# Altium schematic symbol library Schlib1.SchLib: 74 symbols
Pins are listed as number, name and electrical type; pins without a type are passive.

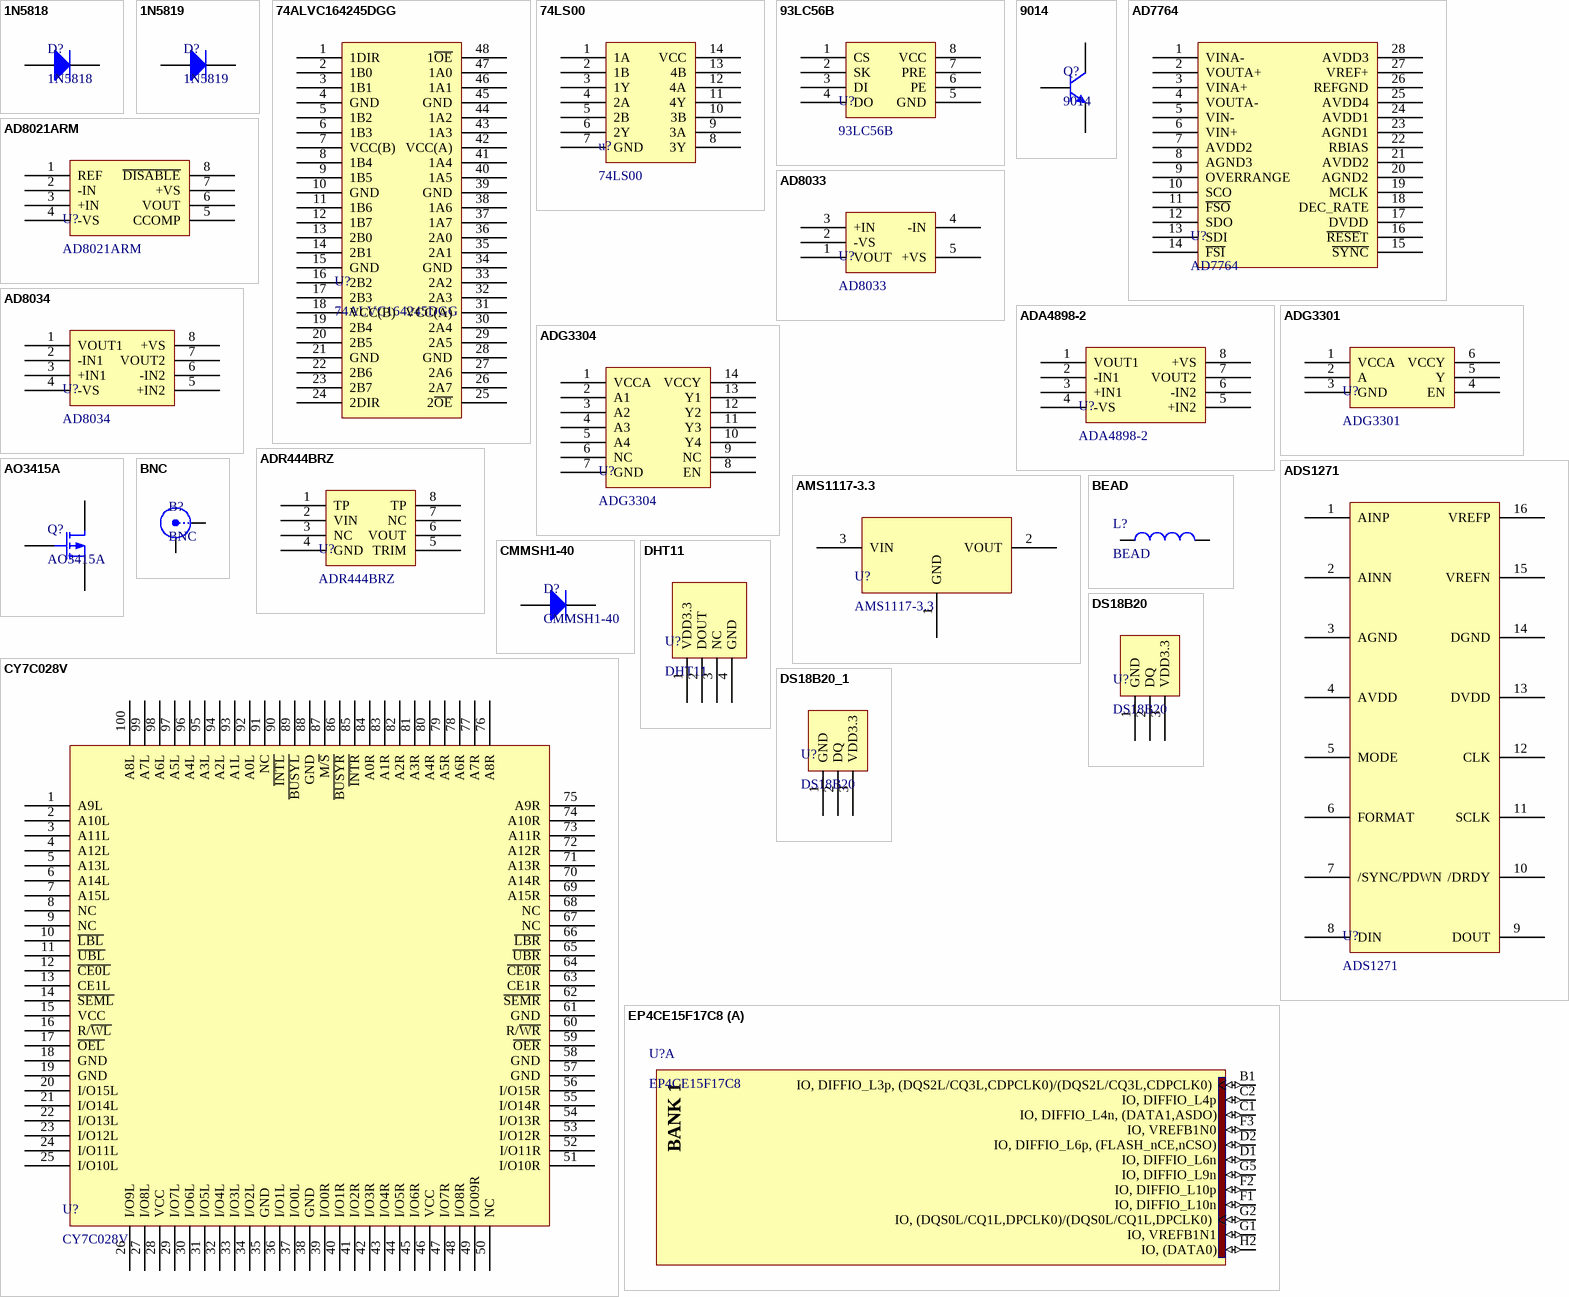
[diagram p0: symbols 1N5818 to EP4CE15F17C8]

## 1N5818
designator D?
footprint SMB
pins: 1 A, 2 K

## 1N5819
designator D?
footprint SMB
pins: 1 A, 2 K

## 74ALVC164245DGG
designator U?
footprint 74ALVC164245DGG(SOP48) (SSOP, 48-Leads, Body 12.6x6.2mm (max), Pitch 0.50mm, IPC Medium Density)
pins: 1 1DIR, 2 1B0, 3 1B1, 4 GND, 5 1B2, 6 1B3, 7 VCC(B), 8 1B4, 9 1B5, 10 GND, 11 1B6, 12 1B7, 13 2B0, 14 2B1, 15 GND, 16 2B2, 17 2B3, 18 VCC(B), 19 2B4, 20 2B5, 21 GND, 22 2B6, 23 2B7, 24 2DIR, 25 2~{OE}, 26 2A7, 27 2A6, 28 GND, 29 2A5, 30 2A4, 31 VCC(A), 32 2A3, 33 2A2, 34 GND, 35 2A1, 36 2A0, 37 1A7, 38 1A6, 39 GND, 40 1A5, 41 1A4, 42 VCC(A), 43 1A3, 44 1A2, 45 GND, 46 1A1, 47 1A0, 48 1~{OE}

## 74LS00
designator u?
footprint 74LS00
pins: 1 1A, 2 1B, 3 1Y, 4 2A, 5 2B, 6 2Y, 7 GND, 8 3Y, 9 3A, 10 3B, 11 4Y, 12 4A, 13 4B, 14 VCC

## 93LC56B
designator U?
footprint 93LC56B(SOIC) (SOIC, 8-Leads, Body 4.9x3.9mm (max), Pitch 1.27mm, IPC Medium Density)
pins: 1 CS, 2 SK, 3 DI, 4 DO, 5 GND, 6 PE, 7 PRE, 8 VCC

## 9014
designator Q?
footprint SOT-23
pins: 1 B, 2 E, 3 C

## AD7764
designator U?
footprint AD7764(SOP28) (TSOP, 28-Leads, Body 9.8x4.5mm (max), Pitch 0.65mm, IPC Medium Density)
pins: 1 VINA-, 2 VOUTA+, 3 VINA+, 4 VOUTA-, 5 VIN-, 6 VIN+, 7 AVDD2, 8 AGND3, 9 OVERRANGE, 10 SCO, 11 ~{FSO}, 12 SDO, 13 SDI, 14 ~{FSI}, 15 ~{SYNC}, 16 ~{RESE}T, 17 DVDD, 18 DEC_RATE, 19 MCLK, 20 AGND2, 21 AVDD2, 22 RBIAS, 23 AGND1, 24 AVDD1, 25 AVDD4, 26 REFGND, 27 VREF+, 28 AVDD3

## AD8021ARM
designator U?
footprint AD8021ARM(MSOP8) (TSOP, 8-Leads, Body 3.2x3.2mm (max), Pitch 0.65mm, IPC Medium Density)
pins: 1 REF, 2 -IN, 3 +IN, 4 -VS, 5 CCOMP, 6 VOUT, 7 +VS, 8 ~{DISABLE}

## AD8033
designator U?
footprint AD8033 (SOT23, 5-Leads, Body 2.2x2.4mm (max), Pitch 0.65mm, IPC Medium Density)
footprint AD8033 (SOT23, 5-Leads, Body 2.2x2.4mm (max), Pitch 0.65mm, IPC Medium Density)
pins: 1 VOUT, 2 -VS, 3 +IN, 4 -IN, 5 +VS

## AD8034
designator U?
footprint AD8034 (SOIC, 8-Leads, Body 5.0x4.0mm (max), Pitch 1.27mm, IPC Medium Density)
pins: 1 VOUT1, 2 -IN1, 3 +IN1, 4 -VS, 5 +IN2, 6 -IN2, 7 VOUT2, 8 +VS

## ADA4898-2
designator U?
footprint ADA4898-2(SOIC-8) (SOIC, 8-Leads, Body 5.0x4.0mm (max), Pitch 1.27mm, IPC Medium Density)
pins: 1 VOUT1, 2 -IN1, 3 +IN1, 4 -VS, 5 +IN2, 6 -IN2, 7 VOUT2, 8 +VS

## ADG3301
designator U?
footprint ADG3301(SOT) (SOT23, 6-Leads, Body 2.2x2.4mm (max), Pitch 0.65mm, IPC Medium Density)
pins: 1 VCCA, 2 A, 3 GND, 4 EN, 5 Y, 6 VCCY

## ADG3304
designator U?
footprint ADG3304(SOP-14) (SOP, 14-Leads, Body 5.1x4.5mm (max), Pitch 0.65mm, IPC Medium Density)
pins: 1 VCCA, 2 A1, 3 A2, 4 A3, 5 A4, 6 NC, 7 GND, 8 EN, 9 NC, 10 Y4, 11 Y3, 12 Y2, 13 Y1, 14 VCCY

## ADR444BRZ
designator U?
footprint ADR444BRZ(SOIC-8) (SOIC, 8-Leads, Body 5.0x4.0mm (max), Pitch 1.27mm, IPC Medium Density)
pins: 1 TP, 2 VIN, 3 NC, 4 GND, 5 TRIM, 6 VOUT, 7 NC, 8 TP

## ADS1271
designator U?
footprint ads1271 (TSOP, 16-Leads, Body 5.1x4.5mm (max), Pitch 0.65mm, IPC Medium Density)
pins: 1 AINP, 2 AINN, 3 AGND, 4 AVDD, 5 MODE, 6 FORMAT, 7 /SYNC/PDWN, 8 DIN, 9 DOUT, 10 /DRDY, 11 SCLK, 12 CLK, 13 DVDD, 14 DGND, 15 VREFN, 16 VREFP

## AMS1117-3.3
designator U?
footprint AMS1117-3.3
pins: 1 GND, 2 VOUT, 3 VIN

## AO3415A
designator Q?
footprint SOT-23
pins: 1 G, 2 S, 3 D

## BEAD
designator L?
footprint 0805
pins: 1, 2

## BNC
designator B?
footprint bnc
pins: 1 Y, 2 X

## CMMSH1-40
designator D?
footprint SOD-123F
pins: 1 A, 2 K

## CY7C028V
designator U?
footprint CY7C028V (TSQFP, 100-Leads, Body 16.3x16.3mm (max), Pitch 0.50mm, IPC Medium Density)
pins: 1 A9L, 2 A10L, 3 A11L, 4 A12L, 5 A13L, 6 A14L, 7 A15L, 8 NC, 9 NC, 10 ~{LBL}, 11 ~{UBL}, 12 ~{CE0L}, 13 CE1L, 14 ~{SEML}, 15 VCC, 16 R/~{WL}, 17 ~{OEL}, 18 GND, 19 GND, 20 I/O15L, 21 I/O14L, 22 I/O13L, 23 I/O12L, 24 I/O11L, 25 I/O10L, 26 I/O9L, 27 I/O8L, 28 VCC, 29 I/O7L, 30 I/O6L, 31 I/O5L, 32 I/O4L, 33 I/O3L, 34 I/O2L, 35 GND, 36 I/O1L, 37 I/O0L, 38 GND, 39 I/O0R, 40 I/O1R, 41 I/O2R, 42 I/O3R, 43 I/O4R, 44 I/O5R, 45 I/O6R, 46 VCC, 47 I/O7R, 48 I/O8R, 49 I/O09R, 50 NC, 51 I/O10R, 52 I/O11R, 53 I/O12R, 54 I/O13R, 55 I/O14R, 56 I/O15R, 57 GND, 58 GND, 59 ~{OER}, 60 R/~{WR}, 61 GND, 62 ~{SEMR}, 63 CE1R, 64 ~{CE0R}, 65 ~{UBR}, 66 ~{LBR}, 67 NC, 68 NC, 69 A15R, 70 A14R, 71 A13R, 72 A12R, 73 A11R, 74 A10R, 75 A9R, 76 A8R, 77 A7R, 78 A6R, 79 A5R, 80 A4R, 81 A3R, 82 A2R, 83 A1R, 84 A0R, 85 ~{INTR}, 86 ~{BUSYR}, 87 M/~{S}, 88 GND, 89 ~{BUSYL}, 90 ~{INTL}, 91 NC, 92 A0L, 93 A1L, 94 A2L, 95 A3L, 96 A4L, 97 A5L, 98 A6L, 99 A7L, 100 A8L

## DHT11
designator U?
footprint DHT11
pins: 1 VDD3.3, 2 DOUT, 3 NC, 4 GND

## DS18B20
designator U?
footprint DS18B20
pins: 1 GND, 2 DQ, 3 VDD3.3

## DS18B20_1
designator U?, comment DS18B20
footprint DS18B20
pins: 1 GND, 2 DQ, 3 VDD3.3

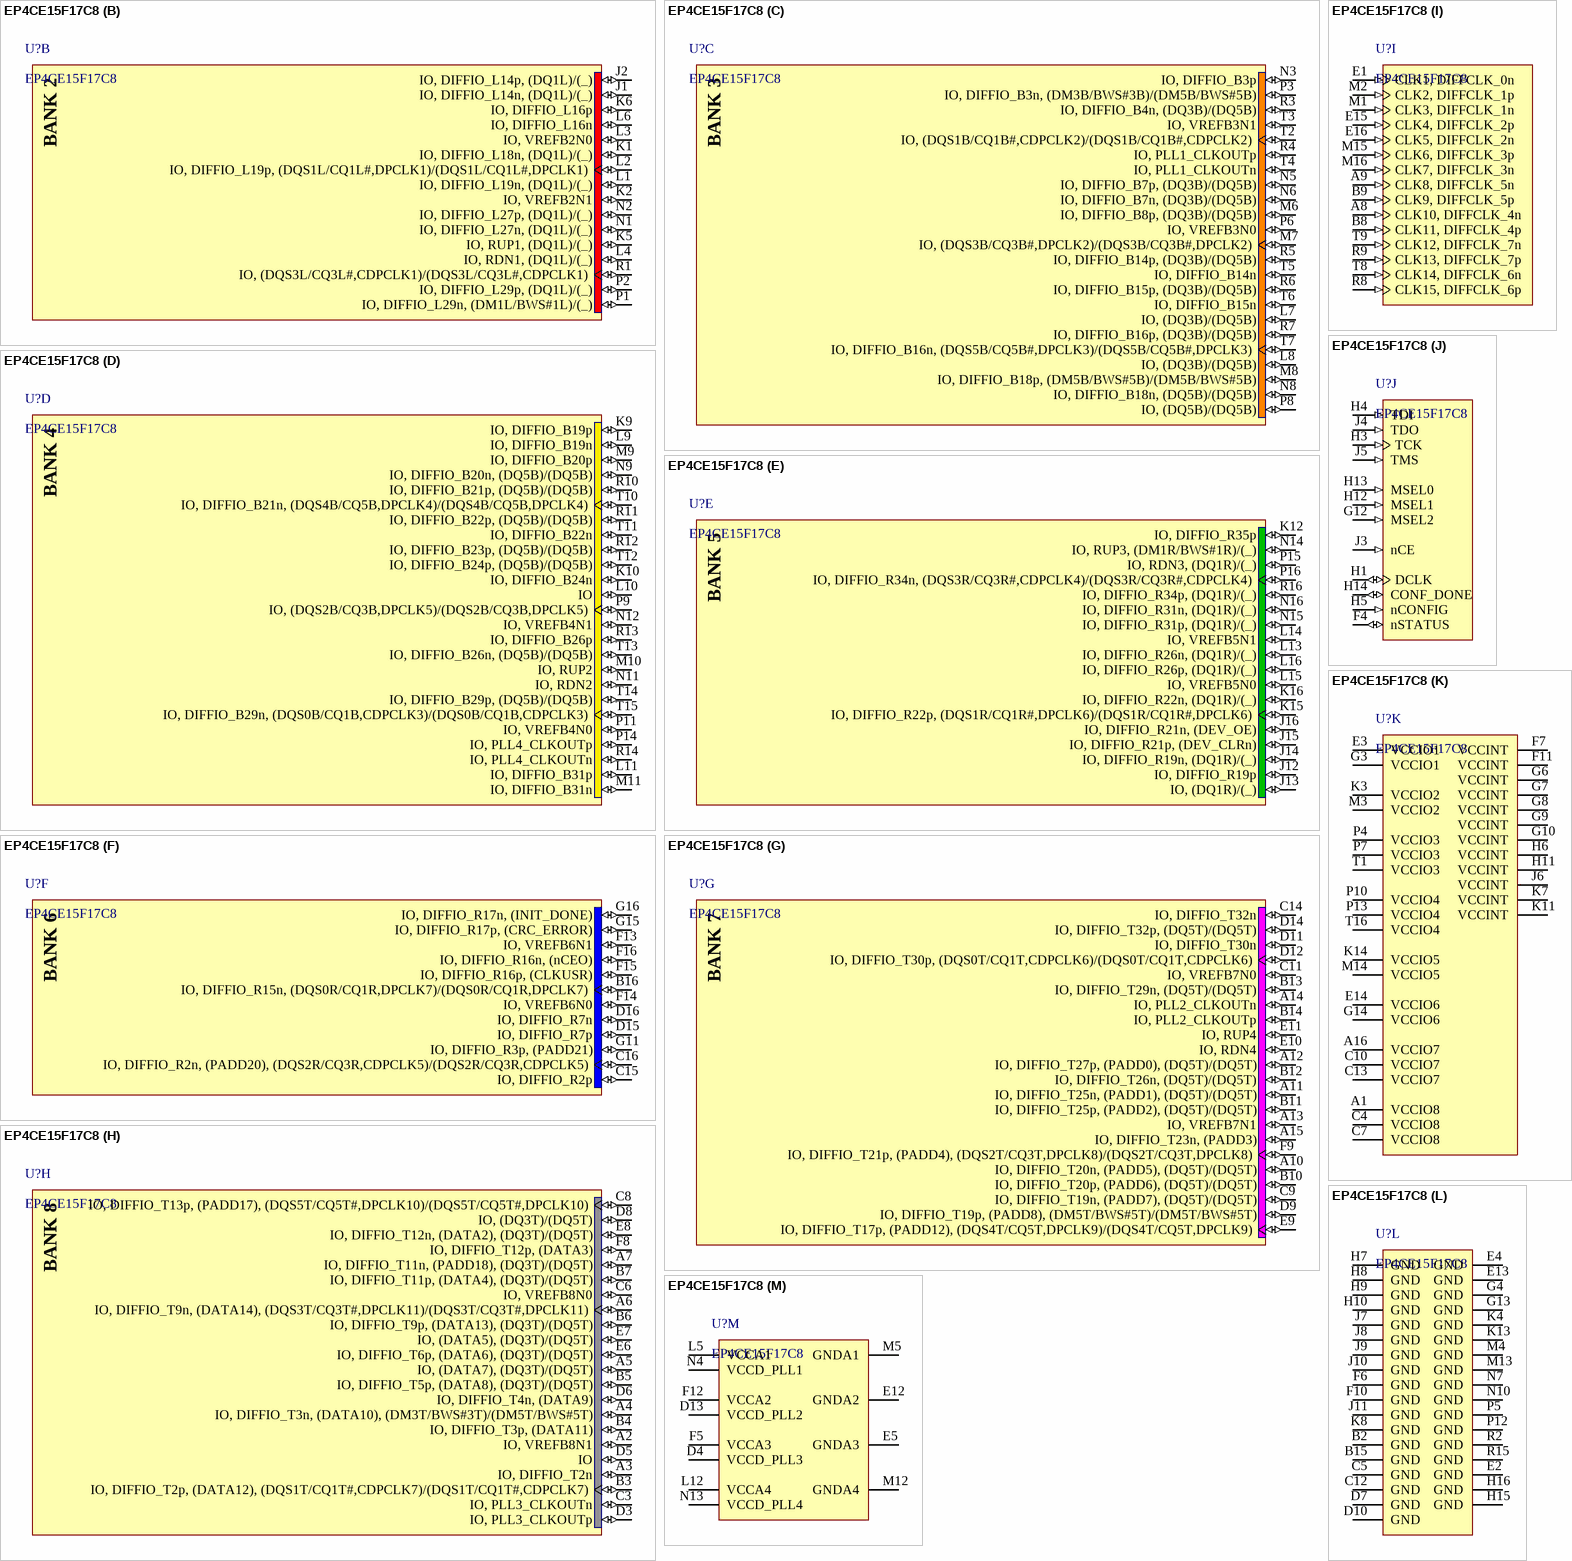
[diagram p1: symbol EP4CE15F17C8]

## EP4CE15F17C8
designator U?
Published: 3-May-2010; DatasheetVersion: ver1.2, Mar-2010; PackageVersion: ver16.0, Dec-2009; PackageReference: FBGA256; Publisher: Altium Limited; PackageDescription: 256-Ball FineLine Ball Grid Array (FBGA256) - Option 1 - Wire Bond; Supplier 1: Digi-Key; Supplier Part Number 1: EP4CE15F17C8-ND; Code_JEDEC: MS-034-AAF-1; Code_IPC: BGA100P16X16-256; ComponentLink1Description: Manufacturer Link; ComponentLink1URL: http://www.altera.com/; ComponentLink2Description: Handbook; ComponentLink2URL: http://www.altera.com/literature/hb/cyclone-iv/cyclone4-handbook.pdf; ComponentLink3Description: Pinout Specification; ComponentLink3URL: http://www.altera.com/literature/lit-dp.jsp?category=cyc%204&showspreadsheet=y; ComponentLink4Description: Packaging Specification; ComponentLink4URL: http://www.altera.com/literature/ds/dspkg.pdf
footprint EP4CE15F17C8(BGA) (BGA, 256-Leads, Body 17x17mm, Pitch 1mm)
part A pins: B1 IO, DIFFIO_L3p, (DQS2L/CQ3L,CDPCLK0)/(DQS2L/CQ3L,CDPCLK0) (io), C1 IO, DIFFIO_L4n, (DATA1,ASDO) (io), C2 IO, DIFFIO_L4p (io), D1 IO, DIFFIO_L6n (io), D2 IO, DIFFIO_L6p, (FLASH_nCE,nCSO) (io), F1 IO, DIFFIO_L10n (io), F2 IO, DIFFIO_L10p (io), F3 IO, VREFB1N0 (io), G1 IO, VREFB1N1 (io), G2 IO, (DQS0L/CQ1L,DPCLK0)/(DQS0L/CQ1L,DPCLK0) (io), G5 IO, DIFFIO_L9n (io), H2 IO, (DATA0) (io)
part B pins: J1 IO, DIFFIO_L14n, (DQ1L)/(_) (io), J2 IO, DIFFIO_L14p, (DQ1L)/(_) (io), K1 IO, DIFFIO_L18n, (DQ1L)/(_) (io), K2 IO, VREFB2N1 (io), K5 IO, RUP1, (DQ1L)/(_) (io), K6 IO, DIFFIO_L16p (io), L1 IO, DIFFIO_L19n, (DQ1L)/(_) (io), L2 IO, DIFFIO_L19p, (DQS1L/CQ1L#,DPCLK1)/(DQS1L/CQ1L#,DPCLK1) (io), L3 IO, VREFB2N0 (io), L4 IO, RDN1, (DQ1L)/(_) (io), L6 IO, DIFFIO_L16n (io), N1 IO, DIFFIO_L27n, (DQ1L)/(_) (io), N2 IO, DIFFIO_L27p, (DQ1L)/(_) (io), P1 IO, DIFFIO_L29n, (DM1L/BWS#1L)/(_) (io), P2 IO, DIFFIO_L29p, (DQ1L)/(_) (io), R1 IO, (DQS3L/CQ3L#,CDPCLK1)/(DQS3L/CQ3L#,CDPCLK1) (io)
part C pins: L7 IO, (DQ3B)/(DQ5B) (io), L8 IO, (DQ3B)/(DQ5B) (io), M6 IO, DIFFIO_B8p, (DQ3B)/(DQ5B) (io), M7 IO, (DQS3B/CQ3B#,DPCLK2)/(DQS3B/CQ3B#,DPCLK2) (io), M8 IO, DIFFIO_B18p, (DM5B/BWS#5B)/(DM5B/BWS#5B) (io), N3 IO, DIFFIO_B3p (io), N5 IO, DIFFIO_B7p, (DQ3B)/(DQ5B) (io), N6 IO, DIFFIO_B7n, (DQ3B)/(DQ5B) (io), N8 IO, DIFFIO_B18n, (DQ5B)/(DQ5B) (io), P3 IO, DIFFIO_B3n, (DM3B/BWS#3B)/(DM5B/BWS#5B) (io), P6 IO, VREFB3N0 (io), P8 IO, (DQ5B)/(DQ5B) (io), R3 IO, DIFFIO_B4n, (DQ3B)/(DQ5B) (io), R4 IO, PLL1_CLKOUTp (io), R5 IO, DIFFIO_B14p, (DQ3B)/(DQ5B) (io), R6 IO, DIFFIO_B15p, (DQ3B)/(DQ5B) (io), R7 IO, DIFFIO_B16p, (DQ3B)/(DQ5B) (io), T2 IO, (DQS1B/CQ1B#,CDPCLK2)/(DQS1B/CQ1B#,CDPCLK2) (io), T3 IO, VREFB3N1 (io), T4 IO, PLL1_CLKOUTn (io), T5 IO, DIFFIO_B14n (io), T6 IO, DIFFIO_B15n (io), T7 IO, DIFFIO_B16n, (DQS5B/CQ5B#,DPCLK3)/(DQS5B/CQ5B#,DPCLK3) (io)
part D pins: K9 IO, DIFFIO_B19p (io), K10 IO, DIFFIO_B24n (io), L9 IO, DIFFIO_B19n (io), L10 IO (io), L11 IO, DIFFIO_B31p (io), M9 IO, DIFFIO_B20p (io), M10 IO, RUP2 (io), M11 IO, DIFFIO_B31n (io), N9 IO, DIFFIO_B20n, (DQ5B)/(DQ5B) (io), N11 IO, RDN2 (io), N12 IO, VREFB4N1 (io), P9 IO, (DQS2B/CQ3B,DPCLK5)/(DQS2B/CQ3B,DPCLK5) (io), P11 IO, VREFB4N0 (io), P14 IO, PLL4_CLKOUTp (io), R10 IO, DIFFIO_B21p, (DQ5B)/(DQ5B) (io), R11 IO, DIFFIO_B22p, (DQ5B)/(DQ5B) (io), R12 IO, DIFFIO_B23p, (DQ5B)/(DQ5B) (io), R13 IO, DIFFIO_B26p (io), R14 IO, PLL4_CLKOUTn (io), T10 IO, DIFFIO_B21n, (DQS4B/CQ5B,DPCLK4)/(DQS4B/CQ5B,DPCLK4) (io), T11 IO, DIFFIO_B22n (io), T12 IO, DIFFIO_B24p, (DQ5B)/(DQ5B) (io), T13 IO, DIFFIO_B26n, (DQ5B)/(DQ5B) (io), T14 IO, DIFFIO_B29p, (DQ5B)/(DQ5B) (io), T15 IO, DIFFIO_B29n, (DQS0B/CQ1B,CDPCLK3)/(DQS0B/CQ1B,CDPCLK3) (io)
part E pins: J12 IO, DIFFIO_R19p (io), J13 IO, (DQ1R)/(_) (io), J14 IO, DIFFIO_R19n, (DQ1R)/(_) (io), J15 IO, DIFFIO_R21p, (DEV_CLRn) (io), J16 IO, DIFFIO_R21n, (DEV_OE) (io), K12 IO, DIFFIO_R35p (io), K15 IO, DIFFIO_R22p, (DQS1R/CQ1R#,DPCLK6)/(DQS1R/CQ1R#,DPCLK6) (io), K16 IO, DIFFIO_R22n, (DQ1R)/(_) (io), L13 IO, DIFFIO_R26n, (DQ1R)/(_) (io), L14 IO, VREFB5N1 (io), L15 IO, VREFB5N0 (io), L16 IO, DIFFIO_R26p, (DQ1R)/(_) (io), N14 IO, RUP3, (DM1R/BWS#1R)/(_) (io), N15 IO, DIFFIO_R31p, (DQ1R)/(_) (io), N16 IO, DIFFIO_R31n, (DQ1R)/(_) (io), P15 IO, RDN3, (DQ1R)/(_) (io), P16 IO, DIFFIO_R34n, (DQS3R/CQ3R#,CDPCLK4)/(DQS3R/CQ3R#,CDPCLK4) (io), R16 IO, DIFFIO_R34p, (DQ1R)/(_) (io)
part F pins: B16 IO, DIFFIO_R15n, (DQS0R/CQ1R,DPCLK7)/(DQS0R/CQ1R,DPCLK7) (io), C15 IO, DIFFIO_R2p (io), C16 IO, DIFFIO_R2n, (PADD20), (DQS2R/CQ3R,CDPCLK5)/(DQS2R/CQ3R,CDPCLK5) (io), D15 IO, DIFFIO_R7p (io), D16 IO, DIFFIO_R7n (io), F13 IO, VREFB6N1 (io), F14 IO, VREFB6N0 (io), F15 IO, DIFFIO_R16p, (CLKUSR) (io), F16 IO, DIFFIO_R16n, (nCEO) (io), G11 IO, DIFFIO_R3p, (PADD21) (io), G15 IO, DIFFIO_R17p, (CRC_ERROR) (io), G16 IO, DIFFIO_R17n, (INIT_DONE) (io)
part G pins: A10 IO, DIFFIO_T20n, (PADD5), (DQ5T)/(DQ5T) (io), A11 IO, DIFFIO_T25n, (PADD1), (DQ5T)/(DQ5T) (io), A12 IO, DIFFIO_T27p, (PADD0), (DQ5T)/(DQ5T) (io), A13 IO, VREFB7N1 (io), A14 IO, PLL2_CLKOUTn (io), A15 IO, DIFFIO_T23n, (PADD3) (io), B10 IO, DIFFIO_T20p, (PADD6), (DQ5T)/(DQ5T) (io), B11 IO, DIFFIO_T25p, (PADD2), (DQ5T)/(DQ5T) (io), B12 IO, DIFFIO_T26n, (DQ5T)/(DQ5T) (io), B13 IO, DIFFIO_T29n, (DQ5T)/(DQ5T) (io), B14 IO, PLL2_CLKOUTp (io), C9 IO, DIFFIO_T19n, (PADD7), (DQ5T)/(DQ5T) (io), C11 IO, VREFB7N0 (io), C14 IO, DIFFIO_T32n (io), D9 IO, DIFFIO_T19p, (PADD8), (DM5T/BWS#5T)/(DM5T/BWS#5T) (io), D11 IO, DIFFIO_T30n (io), D12 IO, DIFFIO_T30p, (DQS0T/CQ1T,CDPCLK6)/(DQS0T/CQ1T,CDPCLK6) (io), D14 IO, DIFFIO_T32p, (DQ5T)/(DQ5T) (io), E9 IO, DIFFIO_T17p, (PADD12), (DQS4T/CQ5T,DPCLK9)/(DQS4T/CQ5T,DPCLK9) (io), E10 IO, RDN4 (io), E11 IO, RUP4 (io), F9 IO, DIFFIO_T21p, (PADD4), (DQS2T/CQ3T,DPCLK8)/(DQS2T/CQ3T,DPCLK8) (io)
part H pins: A2 IO, VREFB8N1 (io), A3 IO, DIFFIO_T2n (io), A4 IO, DIFFIO_T3n, (DATA10), (DM3T/BWS#3T)/(DM5T/BWS#5T) (io), A5 IO, (DATA7), (DQ3T)/(DQ5T) (io), A6 IO, DIFFIO_T9n, (DATA14), (DQS3T/CQ3T#,DPCLK11)/(DQS3T/CQ3T#,DPCLK11) (io), A7 IO, DIFFIO_T11n, (PADD18), (DQ3T)/(DQ5T) (io), B3 IO, DIFFIO_T2p, (DATA12), (DQS1T/CQ1T#,CDPCLK7)/(DQS1T/CQ1T#,CDPCLK7) (io), B4 IO, DIFFIO_T3p, (DATA11) (io), B5 IO, DIFFIO_T5p, (DATA8), (DQ3T)/(DQ5T) (io), B6 IO, DIFFIO_T9p, (DATA13), (DQ3T)/(DQ5T) (io), B7 IO, DIFFIO_T11p, (DATA4), (DQ3T)/(DQ5T) (io), C3 IO, PLL3_CLKOUTn (io), C6 IO, VREFB8N0 (io), C8 IO, DIFFIO_T13p, (PADD17), (DQS5T/CQ5T#,DPCLK10)/(DQS5T/CQ5T#,DPCLK10) (io), D3 IO, PLL3_CLKOUTp (io), D5 IO (io), D6 IO, DIFFIO_T4n, (DATA9) (io), D8 IO, (DQ3T)/(DQ5T) (io), E6 IO, DIFFIO_T6p, (DATA6), (DQ3T)/(DQ5T) (io), E7 IO, (DATA5), (DQ3T)/(DQ5T) (io), E8 IO, DIFFIO_T12n, (DATA2), (DQ3T)/(DQ5T) (io), F8 IO, DIFFIO_T12p, (DATA3) (io)
part I pins: A8 CLK10, DIFFCLK_4n (in), A9 CLK8, DIFFCLK_5n (in), B8 CLK11, DIFFCLK_4p (in), B9 CLK9, DIFFCLK_5p (in), E1 CLK1, DIFFCLK_0n (in), E15 CLK4, DIFFCLK_2p (in), E16 CLK5, DIFFCLK_2n (in), M1 CLK3, DIFFCLK_1n (in), M2 CLK2, DIFFCLK_1p (in), M15 CLK6, DIFFCLK_3p (in), M16 CLK7, DIFFCLK_3n (in), R8 CLK15, DIFFCLK_6p (in), R9 CLK13, DIFFCLK_7p (in), T8 CLK14, DIFFCLK_6n (in), T9 CLK12, DIFFCLK_7n (in)
part J pins: F4 nSTATUS (io), G12 MSEL2 (in), H1 DCLK (io), H3 TCK (in), H4 TDI (in), H5 nCONFIG (in), H12 MSEL1 (in), H13 MSEL0 (in), H14 CONF_DONE (io), J3 nCE (in), J4 TDO (in), J5 TMS (in)
part K pins: A1 VCCIO8 (power), A16 VCCIO7 (power), C4 VCCIO8 (power), C7 VCCIO8 (power), C10 VCCIO7 (power), C13 VCCIO7 (power), E3 VCCIO1 (power), E14 VCCIO6 (power), F7 VCCINT (power), F11 VCCINT (power), G3 VCCIO1 (power), G6 VCCINT (power), G7 VCCINT (power), G8 VCCINT (power), G9 VCCINT (power), G10 VCCINT (power), G14 VCCIO6 (power), H6 VCCINT (power), H11 VCCINT (power), J6 VCCINT (power), K3 VCCIO2 (power), K7 VCCINT (power), K11 VCCINT (power), K14 VCCIO5 (power), M3 VCCIO2 (power), M14 VCCIO5 (power), P4 VCCIO3 (power), P7 VCCIO3 (power), P10 VCCIO4 (power), P13 VCCIO4 (power), T1 VCCIO3 (power), T16 VCCIO4 (power)
part L pins: B2 GND (power), B15 GND (power), C5 GND (power), C12 GND (power), D7 GND (power), D10 GND (power), E2 GND (power), E4 GND (power), E13 GND (power), F6 GND (power), F10 GND (power), G4 GND (power), G13 GND (power), H7 GND (power), H8 GND (power), H9 GND (power), H10 GND (power), H15 GND (power), H16 GND (power), J7 GND (power), J8 GND (power), J9 GND (power), J10 GND (power), J11 GND (power), K4 GND (power), K8 GND (power), K13 GND (power), M4 GND (power), M13 GND (power), N7 GND (power), N10 GND (power), P5 GND (power), P12 GND (power), R2 GND (power), R15 GND (power)
part M pins: D4 VCCD_PLL3 (power), D13 VCCD_PLL2 (power), E5 GNDA3 (power), E12 GNDA2 (power), F5 VCCA3 (power), F12 VCCA2 (power), L5 VCCA1 (power), L12 VCCA4 (power), M5 GNDA1 (power), M12 GNDA4 (power), N4 VCCD_PLL1 (power), N13 VCCD_PLL4 (power)
part A text: BANK 1
part B text: BANK 2
part C text: BANK 3
part D text: BANK 4
part E text: BANK 5
part F text: BANK 6
part G text: BANK 7
part H text: BANK 8

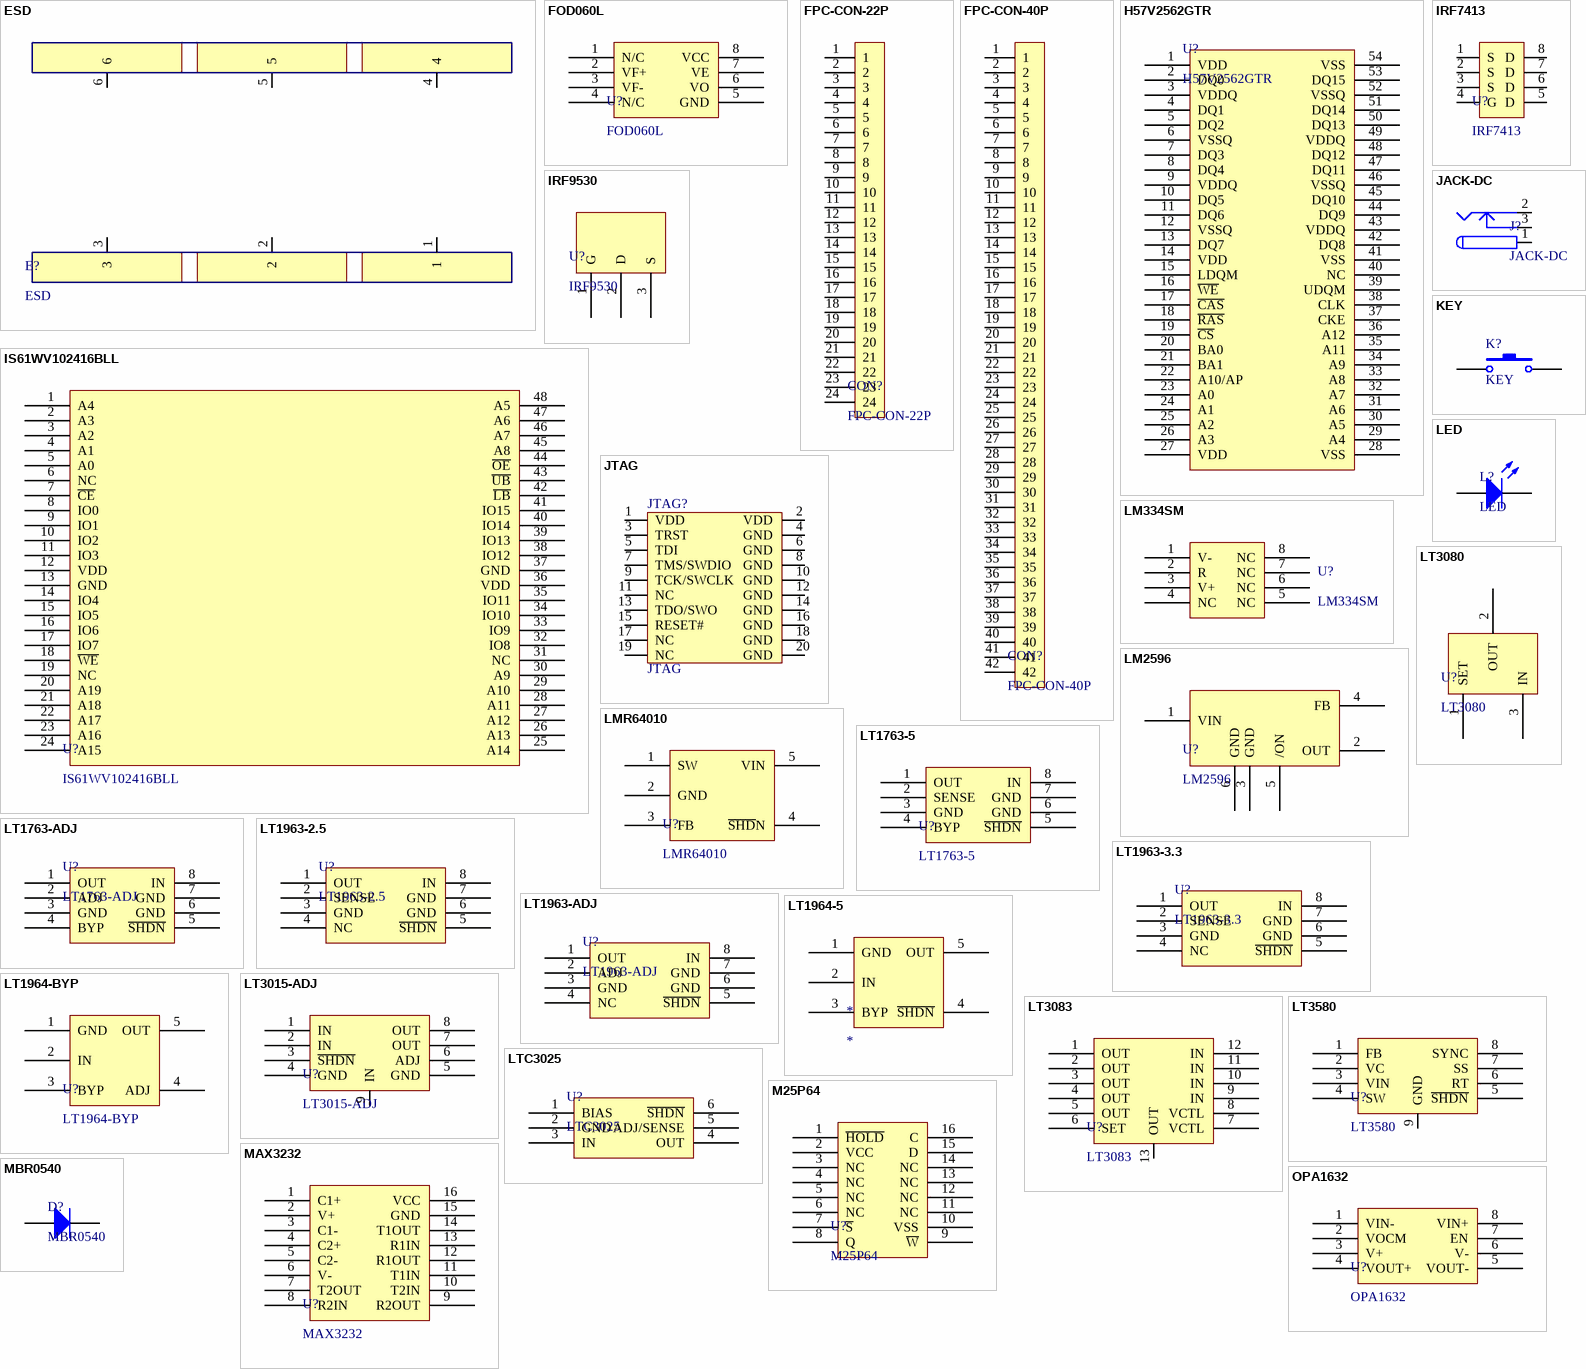
[diagram p2: symbols ESD to OPA1632]

## ESD
designator E?
footprint ESD
pins: 1, 2, 3, 4, 5, 6

## FOD060L
designator U?
footprint FOD060L (SOIC, 8-Leads, Body 5.1x4.2mm (max), Pitch 1.27mm, IPC Medium Density)
pins: 1 N/C, 2 VF+, 3 VF-, 4 N/C, 5 GND, 6 VO, 7 VE, 8 VCC

## FPC-CON-22P
designator CON?
footprint FPC-CON-22P
pins: 1, 2, 3, 4, 5, 6, 7, 8, 9, 10, 11, 12, 13, 14, 15, 16, 17, 18, 19, 20, 21, 22, 23, 24

## FPC-CON-40P
designator CON?
footprint FPC-CON-40P
pins: 1, 2, 3, 4, 5, 6, 7, 8, 9, 10, 11, 12, 13, 14, 15, 16, 17, 18, 19, 20, 21, 22, 23, 24, 25, 26, 27, 28, 29, 30, 31, 32, 33, 34, 35, 36, 37, 38, 39, 40, 41, 42

## H57V2562GTR
designator U?
footprint H57V2562GTR(SOP54) (TSOP, 54-Leads, Body 22.3x10.3mm (max), Pitch 0.80mm, IPC Medium Density)
pins: 1 VDD, 2 DQ0, 3 VDDQ, 4 DQ1, 5 DQ2, 6 VSSQ, 7 DQ3, 8 DQ4, 9 VDDQ, 10 DQ5, 11 DQ6, 12 VSSQ, 13 DQ7, 14 VDD, 15 LDQM, 16 ~{WE}, 17 ~{CAS}, 18 ~{RAS}, 19 ~{CS}, 20 BA0, 21 BA1, 22 A10/AP, 23 A0, 24 A1, 25 A2, 26 A3, 27 VDD, 28 VSS, 29 A4, 30 A5, 31 A6, 32 A7, 33 A8, 34 A9, 35 A11, 36 A12, 37 CKE, 38 CLK, 39 UDQM, 40 NC, 41 VSS, 42 DQ8, 43 VDDQ, 44 DQ9, 45 DQ10, 46 VSSQ, 47 DQ11, 48 DQ12, 49 VDDQ, 50 DQ13, 51 DQ14, 52 VSSQ, 53 DQ15, 54 VSS

## IRF7413
designator U?
footprint IRF7413 (SOP, 8-Leads, Body 5.0x4.0mm (max), Pitch 1.27mm, IPC Medium Density)
pins: 1 S, 2 S, 3 S, 4 G, 5 D, 6 D, 7 D, 8 D

## IRF9530
designator U?
footprint TO-220AB
pins: 1 G, 2 D, 3 S

## IS61WV102416BLL
designator U?
footprint IS61WV102416BLL(SOP48) (TSSOP, 48-Leads, Body 12.2x18.6mm (max), Pitch 0.50mm, IPC Medium Density)
pins: 1 A4, 2 A3, 3 A2, 4 A1, 5 A0, 6 NC, 7 ~{CE}, 8 IO0, 9 IO1, 10 IO2, 11 IO3, 12 VDD, 13 GND, 14 IO4, 15 IO5, 16 IO6, 17 IO7, 18 ~{WE}, 19 NC, 20 A19, 21 A18, 22 A17, 23 A16, 24 A15, 25 A14, 26 A13, 27 A12, 28 A11, 29 A10, 30 A9, 31 NC, 32 IO8, 33 IO9, 34 IO10, 35 IO11, 36 VDD, 37 GND, 38 IO12, 39 IO13, 40 IO14, 41 IO15, 42 ~{LB}, 43 ~{UB}, 44 ~{OE}, 45 A8, 46 A7, 47 A6, 48 A5

## JACK-DC
designator J?
footprint JACK-DC
pins: 1 (power), 2 (power), 3 (power)

## JTAG
designator JTAG?
footprint JTAG_20
pins: 1 VDD, 2 VDD, 3 TRST, 4 GND, 5 TDI, 6 GND, 7 TMS/SWDIO, 8 GND, 9 TCK/SWCLK, 10 GND, 11 NC, 12 GND, 13 TDO/SWO, 14 GND, 15 RESET#, 16 GND, 17 NC, 18 GND, 19 NC, 20 GND

## KEY
designator K?
Published: 24-Mar-1999; LatestRevisionDate: 17-Jul-2002; LatestRevisionNote: Re-released for DXP Platform.; PackageReference: SPST-2; Publisher: Altium Limited
footprint KEY(3*6*2.5)
pins: 1, 2

## LED
designator L?
footprint LED(SMD)
pins: 1 A, 2 K

## LM334SM
designator U?
footprint LM334SM(SOP-8) (SOIC, 8-Leads, Body 5.0x4.0mm (max), Pitch 1.27mm, IPC Medium Density)
pins: 1 V-, 2 R, 3 V+, 4 NC, 5 NC, 6 NC, 7 NC, 8 NC

## LM2596
designator U?
footprint LM2596(TO-263-5) (D2-PAK, 6-Pads, Body 8.9x10.4mm (max), IPC Medium Density)
pins: 1 VIN, 2 OUT, 3 GND, 4 FB, 5 /ON, 6 GND

## LMR64010
designator U?
footprint LMR64010(SOT-23) (SOT23, 5-Leads, Body 3.0x3.0mm (max), Pitch 0.95mm, IPC Medium Density)
pins: 1 SW, 2 GND, 3 FB, 4 ~{SHD}N, 5 VIN

## LT1763-5
designator U?
footprint LT1763-5(SOP-8)
pins: 1 OUT, 2 SENSE, 3 GND, 4 BYP, 5 ~{SHDN}, 6 GND, 7 GND, 8 IN

## LT1763-ADJ
designator U?
footprint LT1763-ADJ(SOP-8) (SOIC, 8-Leads, Body 5.0x4.0mm (max), Pitch 1.27mm, IPC Medium Density)
pins: 1 OUT, 2 ADJ, 3 GND, 4 BYP, 5 ~{SHDN}, 6 GND, 7 GND, 8 IN

## LT1963-2.5
designator U?
footprint LT1963-2.5(SOP8) (D2-PAK, 6-Pads, Body 9.4x10.5mm (max), IPC Medium Density)
pins: 1 OUT, 2 SENSE, 3 GND, 4 NC, 5 ~{SHDN}, 6 GND, 7 GND, 8 IN

## LT1963-3.3
designator U?
footprint LT1963-3.3(SOP8) (D2-PAK, 6-Pads, Body 9.4x10.5mm (max), IPC Medium Density)
pins: 1 OUT, 2 SENSE, 3 GND, 4 NC, 5 ~{SHDN}, 6 GND, 7 GND, 8 IN

## LT1963-ADJ
designator U?
footprint LT1963-ADJ(SOP8) (D2-PAK, 6-Pads, Body 9.4x10.5mm (max), IPC Medium Density)
pins: 1 OUT, 2 ADJ, 3 GND, 4 NC, 5 ~{SHDN}, 6 GND, 7 GND, 8 IN

## LT1964-5
designator *
footprint LT1964-5(SOT-23)
pins: 1 GND, 2 IN, 3 BYP, 4 ~{SHDN}, 5 OUT

## LT1964-BYP
designator U?
footprint LT1964-BYP(SOT-23) (SOT23, 5-Leads, Body 3.0x3.8mm (max), Pitch 0.95mm, IPC Medium Density)
pins: 1 GND, 2 IN, 3 BYP, 4 ADJ, 5 OUT

## LT3015-ADJ
designator U?
footprint LT3015-ADJ(DFN-8) (QFN, 8-Leads, Body 3.1x3.1mm (max), Pitch 0.50mm, IPC Medium Density)
pins: 1 IN, 2 IN, 3 ~{SHDN}, 4 GND, 5 GND, 6 ADJ, 7 OUT, 8 OUT, 9 IN

## LT3080
designator U?
footprint LT3080(SOT-223) (SOT223, 4-Leads, Body 6.7x7.3mm (max), Pitch 2.30mm, IPC Medium Density)
pins: 1 SET, 2 OUT, 3 IN

## LT3083
designator U?
footprint LT3083(DFN-12) (QFN, 12-Leads, Body 4.1x4.1mm (max), Pitch 0.50mm, IPC Medium Density)
pins: 1 OUT, 2 OUT, 3 OUT, 4 OUT, 5 OUT, 6 SET, 7 VCTL, 8 VCTL, 9 IN, 10 IN, 11 IN, 12 IN, 13 OUT

## LT3580
designator U?
footprint LT3580(DFN-8) (QFN, 8-Leads, Body 3.1x3.1mm (max), Pitch 0.50mm, IPC Medium Density)
pins: 1 FB, 2 VC, 3 VIN, 4 SW, 5 ~{SHDN}, 6 RT, 7 SS, 8 SYNC, 9 GND

## LTC3025
designator U?
footprint LTC3025(QFP) (QFN, 6-Leads, Body 2.1x2.1mm (max), Pitch 0.50mm, IPC Medium Density)
pins: 1 BIAS, 2 GND, 3 IN, 4 OUT, 5 ADJ/SENSE, 6 ~{SHDN}

## M25P64
designator U?
footprint M25P64(SOP16) (SOP, 16-Leads, Body 10.5x7.6mm (max), Pitch 1.27mm, IPC Medium Density)
pins: 1 ~{HOLD}, 2 VCC, 3 NC, 4 NC, 5 NC, 6 NC, 7 ~{S}, 8 Q, 9 ~{W}, 10 VSS, 11 NC, 12 NC, 13 NC, 14 NC, 15 D, 16 C

## MAX3232
designator U?
footprint MAX3232(SOP16) (SOP, 16-Leads, Body 5.1x4.5mm (max), Pitch 0.65mm, IPC Medium Density)
pins: 1 C1+, 2 V+, 3 C1-, 4 C2+, 5 C2-, 6 V-, 7 T2OUT, 8 R2IN, 9 R2OUT, 10 T2IN, 11 T1IN, 12 R1OUT, 13 R1IN, 14 T1OUT, 15 GND, 16 VCC

## MBR0540
designator D?
footprint MBR0540
pins: 1 A, 2 K

## OPA1632
designator U?
footprint opa1632 (SOP, 8-Leads, Body 5.0x4.0mm (max), Pitch 1.27mm, IPC Medium Density)
pins: 1 VIN-, 2 VOCM, 3 V+, 4 VOUT+, 5 VOUT-, 6 V-, 7 EN, 8 VIN+

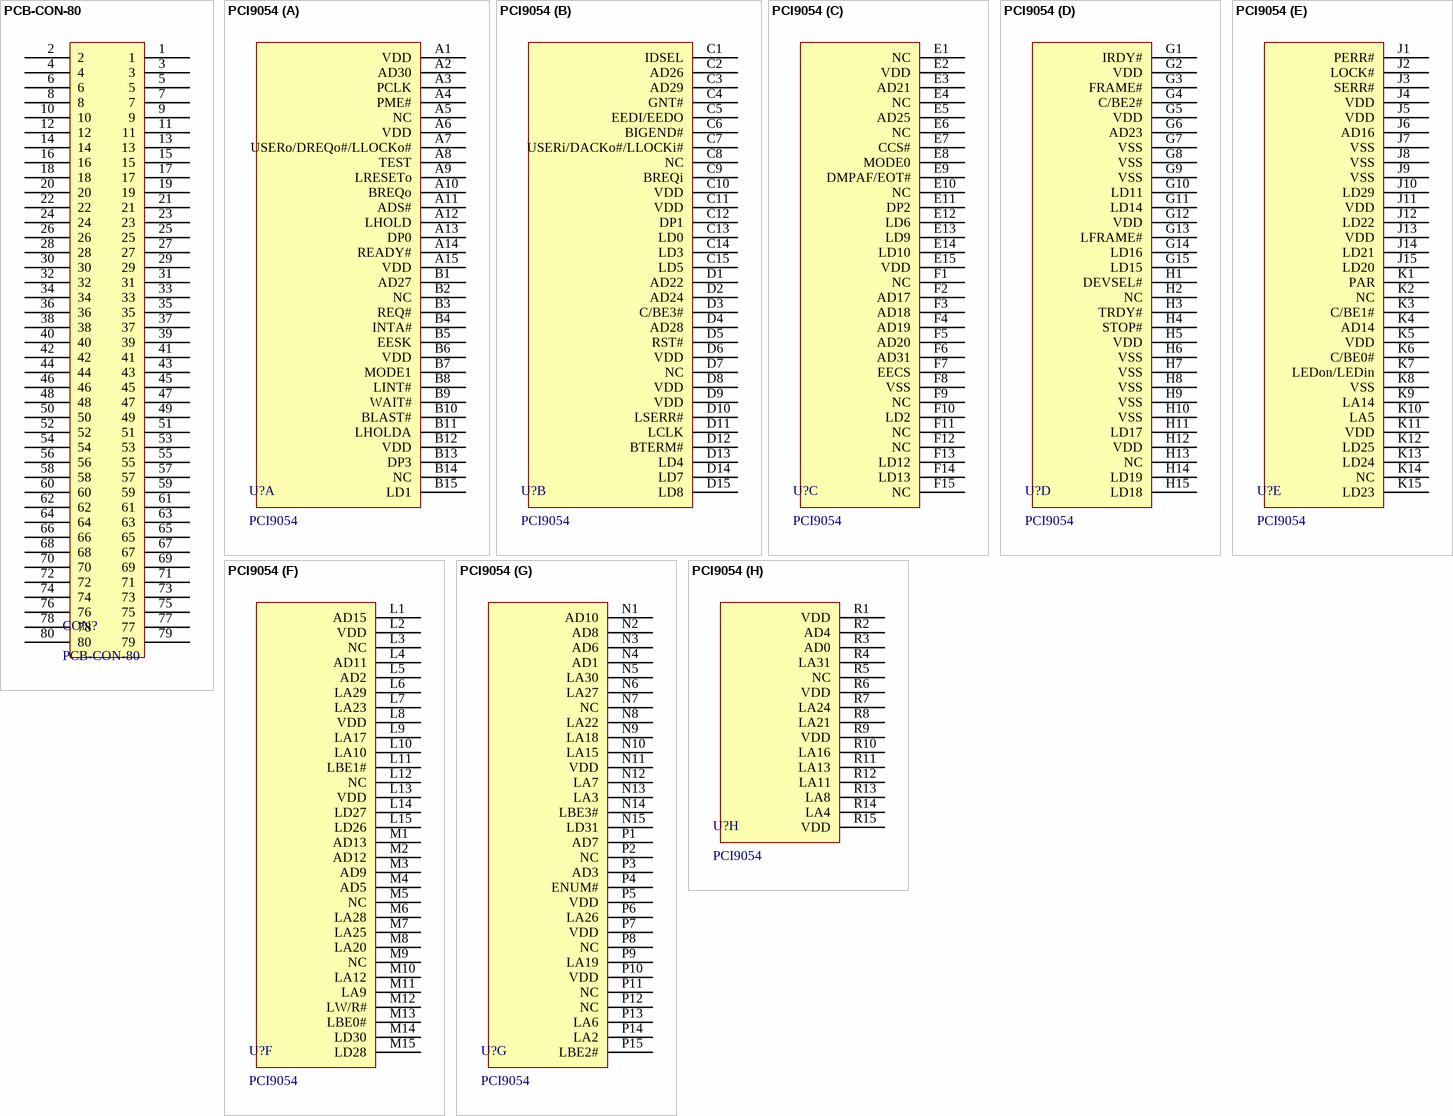
[diagram p3: symbols PCB-CON-80 to PCI9054]

## PCB-CON-80
designator CON?
footprint PCB-CON-80
pins: 1, 2, 3, 4, 5, 6, 7, 8, 9, 10, 11, 12, 13, 14, 15, 16, 17, 18, 19, 20, 21, 22, 23, 24, 25, 26, 27, 28, 29, 30, 31, 32, 33, 34, 35, 36, 37, 38, 39, 40, 41, 42, 43, 44, 45, 46, 47, 48, 49, 50, 51, 52, 53, 54, 55, 56, 57, 58, 59, 60, 61, 62, 63, 64, 65, 66, 67, 68, 69, 70, 71, 72, 73, 74, 75, 76, 77, 78, 79, 80

## PCI9054
designator U?
footprint PCI9054(BGA) (BGA, 225-Leads, Body 27.0x27.0mm,  Pitch 1.50mm)
part A pins: A1 VDD, A2 AD30, A3 PCLK, A4 PME#, A5 NC, A6 VDD, A7 USERo/DREQo#/LLOCKo#, A8 TEST, A9 LRESETo, A10 BREQo, A11 ADS#, A12 LHOLD, A13 DP0, A14 READY#, A15 VDD, B1 AD27, B2 NC, B3 REQ#, B4 INTA#, B5 EESK, B6 VDD, B7 MODE1, B8 LINT#, B9 WAIT#, B10 BLAST#, B11 LHOLDA, B12 VDD, B13 DP3, B14 NC, B15 LD1
part B pins: C1 IDSEL, C2 AD26, C3 AD29, C4 GNT#, C5 EEDI/EEDO, C6 BIGEND#, C7 USERi/DACKo#/LLOCKi#, C8 NC, C9 BREQi, C10 VDD, C11 VDD, C12 DP1, C13 LD0, C14 LD3, C15 LD5, D1 AD22, D2 AD24, D3 C/BE3#, D4 AD28, D5 RST#, D6 VDD, D7 NC, D8 VDD, D9 VDD, D10 LSERR#, D11 LCLK, D12 BTERM#, D13 LD4, D14 LD7, D15 LD8
part C pins: E1 NC, E2 VDD, E3 AD21, E4 NC, E5 AD25, E6 NC, E7 CCS#, E8 MODE0, E9 DMPAF/EOT#, E10 NC, E11 DP2, E12 LD6, E13 LD9, E14 LD10, E15 VDD, F1 NC, F2 AD17, F3 AD18, F4 AD19, F5 AD20, F6 AD31, F7 EECS, F8 VSS, F9 NC, F10 LD2, F11 NC, F12 NC, F13 LD12, F14 LD13, F15 NC
part D pins: G1 IRDY#, G2 VDD, G3 FRAME#, G4 C/BE2#, G5 VDD, G6 AD23, G7 VSS, G8 VSS, G9 VSS, G10 LD11, G11 LD14, G12 VDD, G13 LFRAME#, G14 LD16, G15 LD15, H1 DEVSEL#, H2 NC, H3 TRDY#, H4 STOP#, H5 VDD, H6 VSS, H7 VSS, H8 VSS, H9 VSS, H10 VSS, H11 LD17, H12 VDD, H13 NC, H14 LD19, H15 LD18
part E pins: J1 PERR#, J2 LOCK#, J3 SERR#, J4 VDD, J5 VDD, J6 AD16, J7 VSS, J8 VSS, J9 VSS, J10 LD29, J11 VDD, J12 LD22, J13 VDD, J14 LD21, J15 LD20, K1 PAR, K2 NC, K3 C/BE1#, K4 AD14, K5 VDD, K6 C/BE0#, K7 LEDon/LEDin, K8 VSS, K9 LA14, K10 LA5, K11 VDD, K12 LD25, K13 LD24, K14 NC, K15 LD23
part F pins: L1 AD15, L2 VDD, L3 NC, L4 AD11, L5 AD2, L6 LA29, L7 LA23, L8 VDD, L9 LA17, L10 LA10, L11 LBE1#, L12 NC, L13 VDD, L14 LD27, L15 LD26, M1 AD13, M2 AD12, M3 AD9, M4 AD5, M5 NC, M6 LA28, M7 LA25, M8 LA20, M9 NC, M10 LA12, M11 LA9, M12 LW/R#, M13 LBE0#, M14 LD30, M15 LD28
part G pins: N1 AD10, N2 AD8, N3 AD6, N4 AD1, N5 LA30, N6 LA27, N7 NC, N8 LA22, N9 LA18, N10 LA15, N11 VDD, N12 LA7, N13 LA3, N14 LBE3#, N15 LD31, P1 AD7, P2 NC, P3 AD3, P4 ENUM#, P5 VDD, P6 LA26, P7 VDD, P8 NC, P9 LA19, P10 VDD, P11 NC, P12 NC, P13 LA6, P14 LA2, P15 LBE2#
part H pins: R1 VDD, R2 AD4, R3 AD0, R4 LA31, R5 NC, R6 VDD, R7 LA24, R8 LA21, R9 VDD, R10 LA16, R11 LA13, R12 LA11, R13 LA8, R14 LA4, R15 VDD

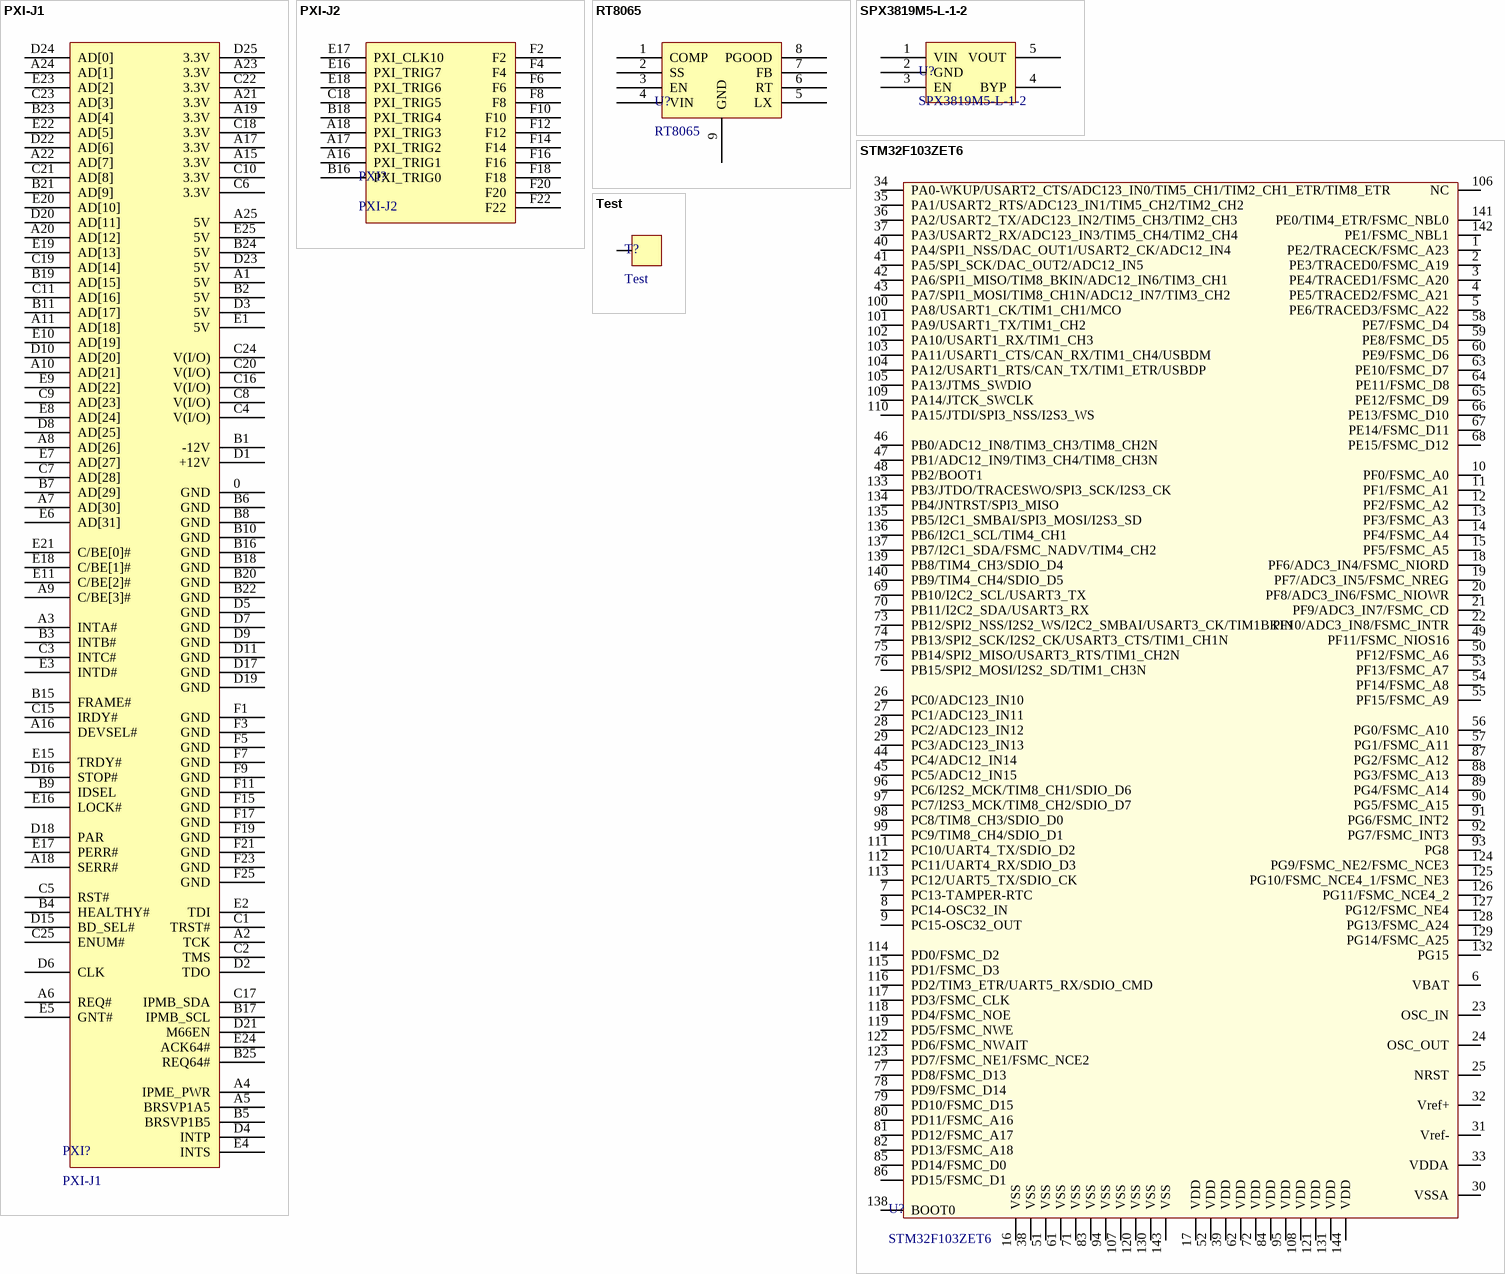
[diagram p4: symbols PXI-J1 to Test]

## PXI-J1
designator PXI?
footprint PXI-J1
pins: 0 GND, A1 5V, A2 TCK, A3 INTA#, A4 IPME_PWR, A5 BRSVP1A5, A6 REQ#, A7 AD[30], A8 AD[26], A9 C/BE[3]#, A10 AD[21], A11 AD[18], A15 3.3V, A16 DEVSEL#, A17 3.3V, A18 SERR#, A19 3.3V, A20 AD[12], A21 3.3V, A22 AD[7], A23 3.3V, A24 AD[1], A25 5V, B1 -12V, B2 5V, B3 INTB#, B4 HEALTHY#, B5 BRSVP1B5, B6 GND, B7 AD[29], B8 GND, B9 IDSEL, B10 GND, B11 AD[17], B15 FRAME#, B16 GND, B17 IPMB_SCL, B18 GND, B19 AD[15], B20 GND, B21 AD[9], B22 GND, B23 AD[4], B24 5V, B25 REQ64#, C1 TRST#, C2 TMS, C3 INTC#, C4 V(I/O), C5 RST#, C6 3.3V, C7 AD[28], C8 V(I/O), C9 AD[23], C10 3.3V, C11 AD[16], C15 IRDY#, C16 V(I/O), C17 IPMB_SDA, C18 3.3V, C19 AD[14], C20 V(I/O), C21 AD[8], C22 3.3V, C23 AD[3], C24 V(I/O), C25 ENUM#, D1 +12V, D2 TDO, D3 5V, D4 INTP, D5 GND, D6 CLK, D7 GND, D8 AD[25], D9 GND, D10 AD[20], D11 GND, D15 BD_SEL#, D16 STOP#, D17 GND, D18 PAR, D19 GND, D20 AD[11], D21 M66EN, D22 AD[6], D23 5V, D24 AD[0], D25 3.3V, E1 5V, E2 TDI, E3 INTD#, E4 INTS, E5 GNT#, E6 AD[31], E7 AD[27], E8 AD[24], E9 AD[22], E10 AD[19], E11 C/BE[2]#, E15 TRDY#, E16 LOCK#, E17 PERR#, E18 C/BE[1]#, E19 AD[13], E20 AD[10], E21 C/BE[0]#, E22 AD[5], E23 AD[2], E24 ACK64#, E25 5V, F1 GND, F3 GND, F5 GND, F7 GND, F9 GND, F11 GND, F15 GND, F17 GND, F19 GND, F21 GND, F23 GND, F25 GND

## PXI-J2
designator PXI?
footprint PXI-J2
pins: A16 PXI_TRIG1, A17 PXI_TRIG2, A18 PXI_TRIG3, B16 PXI_TRIG0, B18 PXI_TRIG4, C18 PXI_TRIG5, E16 PXI_TRIG7, E17 PXI_CLK10, E18 PXI_TRIG6, F2, F4, F6, F8, F10, F12, F14, F16, F18, F20, F22

## RT8065
designator U?
footprint RT8065(SOP8) (SOP, 8-Leads, Body 5.0x4.0mm (max), Pitch 1.27mm, IPC Medium Density)
pins: 1 COMP, 2 SS, 3 EN, 4 VIN, 5 LX, 6 RT, 7 FB, 8 PGOOD, 9 GND

## SPX3819M5-L-1-2
designator U?
footprint SPX3819M5-L-1-2(SOT23) (SOT23, 5-Leads, Body 2.9x2.8mm (max), Pitch 0.95mm, IPC Medium Density)
pins: 1 VIN, 2 GND, 3 EN, 4 BYP, 5 VOUT

## STM32F103ZET6
designator U?
footprint STM32F103ZET6
pins: 1 PE2/TRACECK/FSMC_A23, 2 PE3/TRACED0/FSMC_A19, 3 PE4/TRACED1/FSMC_A20, 4 PE5/TRACED2/FSMC_A21, 5 PE6/TRACED3/FSMC_A22, 6 VBAT, 7 PC13-TAMPER-RTC, 8 PC14-OSC32_IN, 9 PC15-OSC32_OUT, 10 PF0/FSMC_A0, 11 PF1/FSMC_A1, 12 PF2/FSMC_A2, 13 PF3/FSMC_A3, 14 PF4/FSMC_A4, 15 PF5/FSMC_A5, 16 VSS, 17 VDD, 18 PF6/ADC3_IN4/FSMC_NIORD, 19 PF7/ADC3_IN5/FSMC_NREG, 20 PF8/ADC3_IN6/FSMC_NIOWR, 21 PF9/ADC3_IN7/FSMC_CD, 22 PF10/ADC3_IN8/FSMC_INTR, 23 OSC_IN, 24 OSC_OUT, 25 NRST, 26 PC0/ADC123_IN10, 27 PC1/ADC123_IN11, 28 PC2/ADC123_IN12, 29 PC3/ADC123_IN13, 30 VSSA, 31 Vref-, 32 Vref+, 33 VDDA, 34 PA0-WKUP/USART2_CTS/ADC123_IN0/TIM5_CH1/TIM2_CH1_ETR/TIM8_ETR, 35 PA1/USART2_RTS/ADC123_IN1/TIM5_CH2/TIM2_CH2, 36 PA2/USART2_TX/ADC123_IN2/TIM5_CH3/TIM2_CH3, 37 PA3/USART2_RX/ADC123_IN3/TIM5_CH4/TIM2_CH4, 38 VSS, 39 VDD, 40 PA4/SPI1_NSS/DAC_OUT1/USART2_CK/ADC12_IN4, 41 PA5/SPI_SCK/DAC_OUT2/ADC12_IN5, 42 PA6/SPI1_MISO/TIM8_BKIN/ADC12_IN6/TIM3_CH1, 43 PA7/SPI1_MOSI/TIM8_CH1N/ADC12_IN7/TIM3_CH2, 44 PC4/ADC12_IN14, 45 PC5/ADC12_IN15, 46 PB0/ADC12_IN8/TIM3_CH3/TIM8_CH2N, 47 PB1/ADC12_IN9/TIM3_CH4/TIM8_CH3N, 48 PB2/BOOT1, 49 PF11/FSMC_NIOS16, 50 PF12/FSMC_A6, 51 VSS, 52 VDD, 53 PF13/FSMC_A7, 54 PF14/FSMC_A8, 55 PF15/FSMC_A9, 56 PG0/FSMC_A10, 57 PG1/FSMC_A11, 58 PE7/FSMC_D4, 59 PE8/FSMC_D5, 60 PE9/FSMC_D6, 61 VSS, 62 VDD, 63 PE10/FSMC_D7, 64 PE11/FSMC_D8, 65 PE12/FSMC_D9, 66 PE13/FSMC_D10, 67 PE14/FSMC_D11, 68 PE15/FSMC_D12, 69 PB10/I2C2_SCL/USART3_TX, 70 PB11/I2C2_SDA/USART3_RX, 71 VSS, 72 VDD, 73 PB12/SPI2_NSS/I2S2_WS/I2C2_SMBAI/USART3_CK/TIM1BKIN, 74 PB13/SPI2_SCK/I2S2_CK/USART3_CTS/TIM1_CH1N, 75 PB14/SPI2_MISO/USART3_RTS/TIM1_CH2N, 76 PB15/SPI2_MOSI/I2S2_SD/TIM1_CH3N, 77 PD8/FSMC_D13, 78 PD9/FSMC_D14, 79 PD10/FSMC_D15, 80 PD11/FSMC_A16, 81 PD12/FSMC_A17, 82 PD13/FSMC_A18, 83 VSS, 84 VDD, 85 PD14/FSMC_D0, 86 PD15/FSMC_D1, 87 PG2/FSMC_A12, 88 PG3/FSMC_A13, 89 PG4/FSMC_A14, 90 PG5/FSMC_A15, 91 PG6/FSMC_INT2, 92 PG7/FSMC_INT3, 93 PG8, 94 VSS, 95 VDD, 96 PC6/I2S2_MCK/TIM8_CH1/SDIO_D6, 97 PC7/I2S3_MCK/TIM8_CH2/SDIO_D7, 98 PC8/TIM8_CH3/SDIO_D0, 99 PC9/TIM8_CH4/SDIO_D1, 100 PA8/USART1_CK/TIM1_CH1/MCO, 101 PA9/USART1_TX/TIM1_CH2, 102 PA10/USART1_RX/TIM1_CH3, 103 PA11/USART1_CTS/CAN_RX/TIM1_CH4/USBDM, 104 PA12/USART1_RTS/CAN_TX/TIM1_ETR/USBDP, 105 PA13/JTMS_SWDIO, 106 NC, 107 VSS, 108 VDD, 109 PA14/JTCK_SWCLK, 110 PA15/JTDI/SPI3_NSS/I2S3_WS, 111 PC10/UART4_TX/SDIO_D2, 112 PC11/UART4_RX/SDIO_D3, 113 PC12/UART5_TX/SDIO_CK, 114 PD0/FSMC_D2, 115 PD1/FSMC_D3, 116 PD2/TIM3_ETR/UART5_RX/SDIO_CMD, 117 PD3/FSMC_CLK, 118 PD4/FSMC_NOE, 119 PD5/FSMC_NWE, 120 VSS, 121 VDD, 122 PD6/FSMC_NWAIT, 123 PD7/FSMC_NE1/FSMC_NCE2, 124 PG9/FSMC_NE2/FSMC_NCE3, 125 PG10/FSMC_NCE4_1/FSMC_NE3, 126 PG11/FSMC_NCE4_2, 127 PG12/FSMC_NE4, 128 PG13/FSMC_A24, 129 PG14/FSMC_A25, 130 VSS, 131 VDD, 132 PG15, 133 PB3/JTDO/TRACESWO/SPI3_SCK/I2S3_CK, 134 PB4/JNTRST/SPI3_MISO, 135 PB5/I2C1_SMBAI/SPI3_MOSI/I2S3_SD, 136 PB6/I2C1_SCL/TIM4_CH1, 137 PB7/I2C1_SDA/FSMC_NADV/TIM4_CH2, 138 BOOT0, 139 PB8/TIM4_CH3/SDIO_D4, 140 PB9/TIM4_CH4/SDIO_D5, 141 PE0/TIM4_ETR/FSMC_NBL0, 142 PE1/FSMC_NBL1, 143 VSS, 144 VDD

## Test
designator T?
footprint testpoint
pins: 1

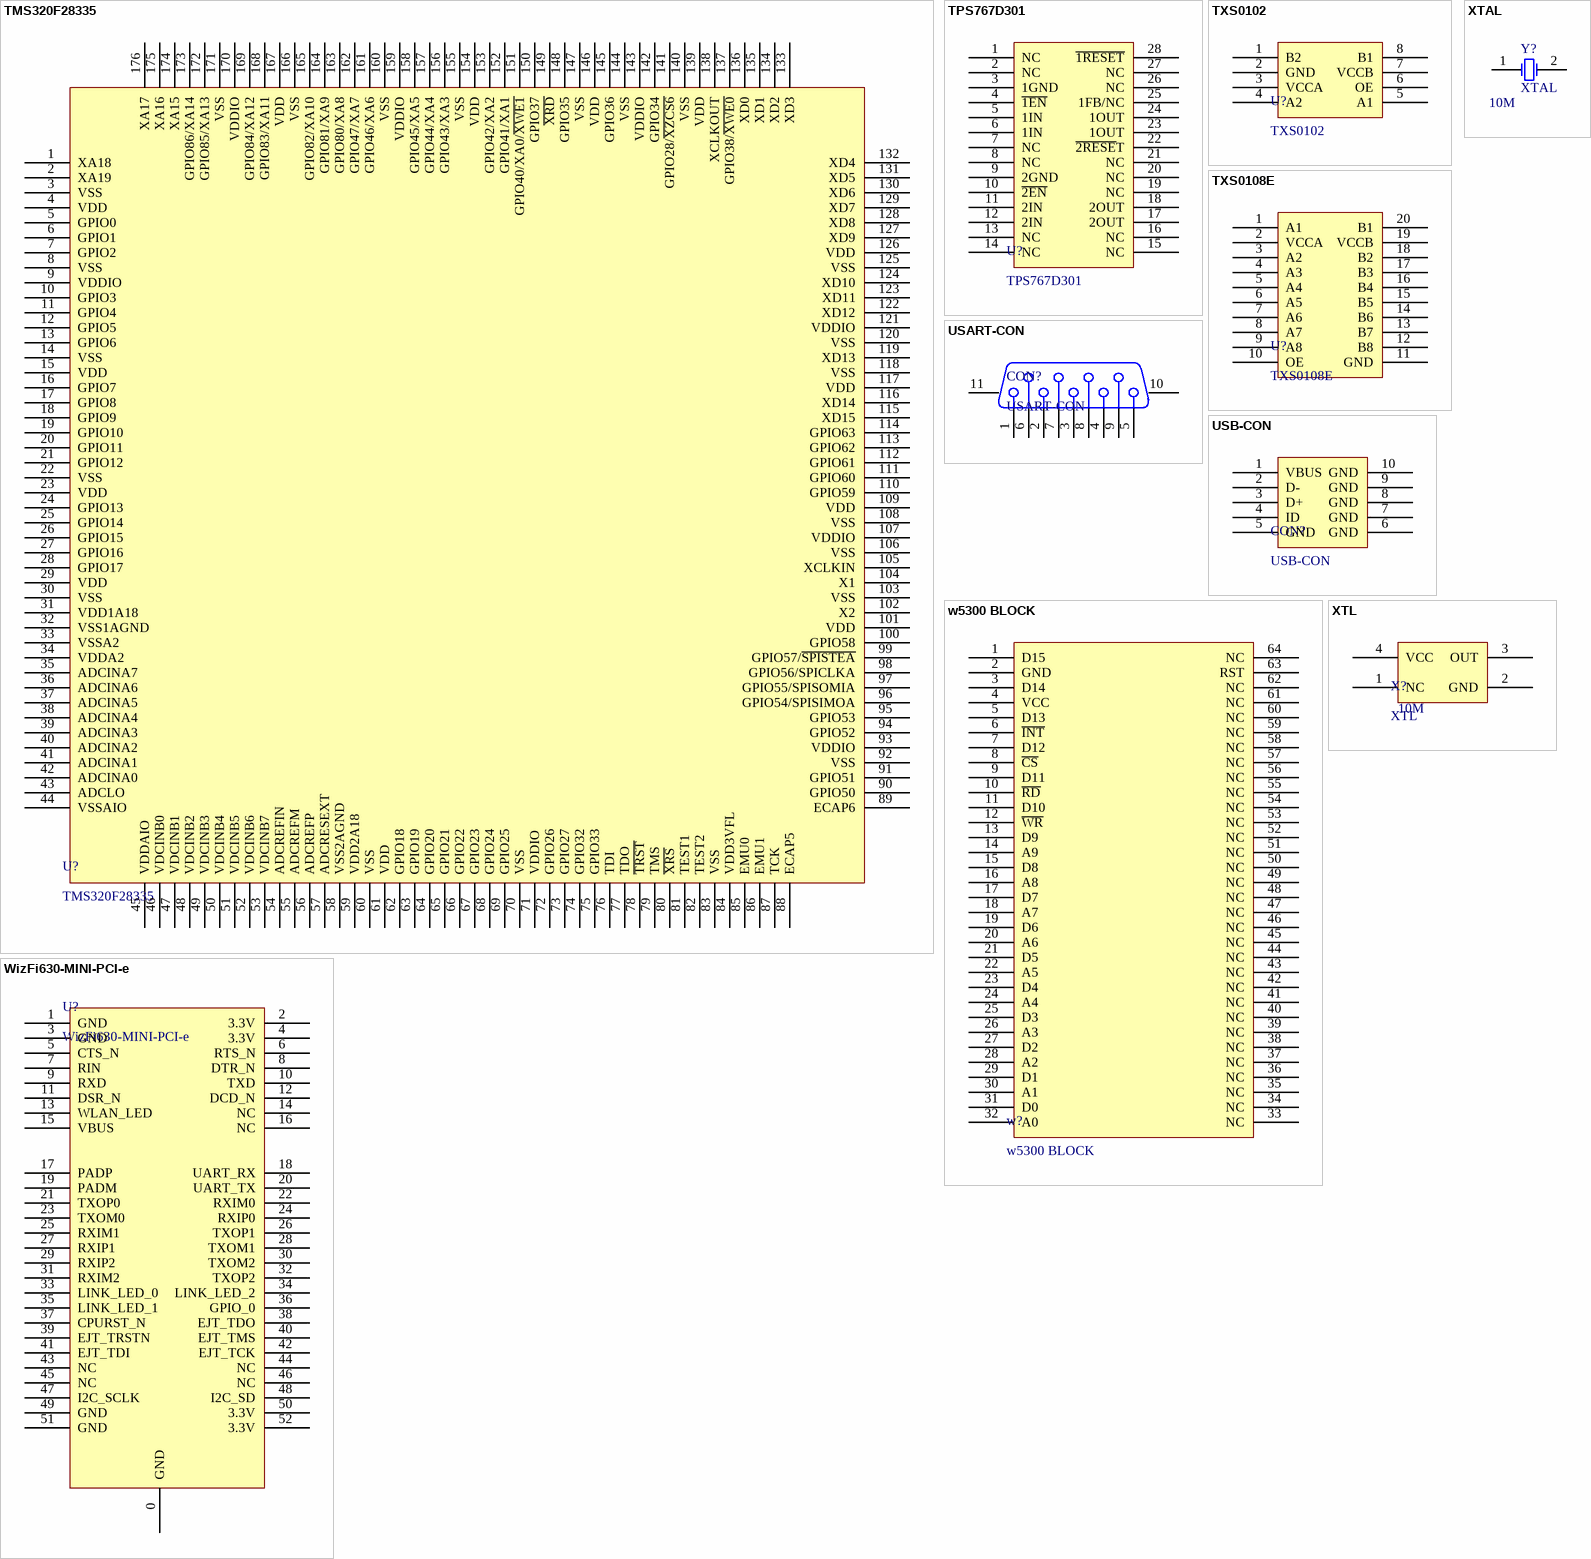
[diagram p5: symbols TMS320F28335 to XTL]

## TMS320F28335
designator U?
footprint TMS320F28335 (TSQFP, 176-Leads, Body 26.2x26.2mm (max), Pitch 0.50mm, IPC Medium Density)
pins: 1 XA18, 2 XA19, 3 VSS, 4 VDD, 5 GPIO0, 6 GPIO1, 7 GPIO2, 8 VSS, 9 VDDIO, 10 GPIO3, 11 GPIO4, 12 GPIO5, 13 GPIO6, 14 VSS, 15 VDD, 16 GPIO7, 17 GPIO8, 18 GPIO9, 19 GPIO10, 20 GPIO11, 21 GPIO12, 22 VSS, 23 VDD, 24 GPIO13, 25 GPIO14, 26 GPIO15, 27 GPIO16, 28 GPIO17, 29 VDD, 30 VSS, 31 VDD1A18, 32 VSS1AGND, 33 VSSA2, 34 VDDA2, 35 ADCINA7, 36 ADCINA6, 37 ADCINA5, 38 ADCINA4, 39 ADCINA3, 40 ADCINA2, 41 ADCINA1, 42 ADCINA0, 43 ADCLO, 44 VSSAIO, 45 VDDAIO, 46 VDCINB0, 47 VDCINB1, 48 VDCINB2, 49 VDCINB3, 50 VDCINB4, 51 VDCINB5, 52 VDCINB6, 53 VDCINB7, 54 ADCREFIN, 55 ADCREFM, 56 ADCREFP, 57 ADCRESEXT, 58 VSS2AGND, 59 VDD2A18, 60 VSS, 61 VDD, 62 GPIO18, 63 GPIO19, 64 GPIO20, 65 GPIO21, 66 GPIO22, 67 GPIO23, 68 GPIO24, 69 GPIO25, 70 VSS, 71 VDDIO, 72 GPIO26, 73 GPIO27, 74 GPIO32, 75 GPIO33, 76 TDI, 77 TDO, 78 ~{TRST}, 79 TMS, 80 ~{XRS}, 81 TEST1, 82 TEST2, 83 VSS, 84 VDD3VFL, 85 EMU0, 86 EMU1, 87 TCK, 88 ECAP5, 89 ECAP6, 90 GPIO50, 91 GPIO51, 92 VSS, 93 VDDIO, 94 GPIO52, 95 GPIO53, 96 GPIO54/SPISIMOA, 97 GPIO55/SPISOMIA, 98 GPIO56/SPICLKA, 99 GPIO57/~{SPISTEA}, 100 GPIO58, 101 VDD, 102 X2, 103 VSS, 104 X1, 105 XCLKIN, 106 VSS, 107 VDDIO, 108 VSS, 109 VDD, 110 GPIO59, 111 GPIO60, 112 GPIO61, 113 GPIO62, 114 GPIO63, 115 XD15, 116 XD14, 117 VDD, 118 VSS, 119 XD13, 120 VSS, 121 VDDIO, 122 XD12, 123 XD11, 124 XD10, 125 VSS, 126 VDD, 127 XD9, 128 XD8, 129 XD7, 130 XD6, 131 XD5, 132 XD4, 133 XD3, 134 XD2, 135 XD1, 136 XD0, 137 GPIO38/~{XWE0}, 138 XCLKOUT, 139 VDD, 140 VSS, 141 GPIO28/~{XZCS6}, 142 GPIO34, 143 VDDIO, 144 VSS, 145 GPIO36, 146 VDD, 147 VSS, 148 GPIO35, 149 ~{XRD}, 150 GPIO37, 151 GPIO40/XA0/~{XWE1}, 152 GPIO41/XA1, 153 GPIO42/XA2, 154 VDD, 155 VSS, 156 GPIO43/XA3, 157 GPIO44/XA4, 158 GPIO45/XA5, 159 VDDIO, 160 VSS, 161 GPIO46/XA6, 162 GPIO47/XA7, 163 GPIO80/XA8, 164 GPIO81/XA9, 165 GPIO82/XA10, 166 VSS, 167 VDD, 168 GPIO83/XA11, 169 GPIO84/XA12, 170 VDDIO, 171 VSS, 172 GPIO85/XA13, 173 GPIO86/XA14, 174 XA15, 175 XA16, 176 XA17

## TPS767D301
designator U?
footprint TPS767D301 (TSOP, 28-Leads, Body 9.8x4.5mm (max), Pitch 0.65mm, IPC Medium Density)
pins: 1 NC, 2 NC, 3 1GND, 4 ~{1EN}, 5 1IN, 6 1IN, 7 NC, 8 NC, 9 2GND, 10 ~{2EN}, 11 2IN, 12 2IN, 13 NC, 14 NC, 15 NC, 16 NC, 17 2OUT, 18 2OUT, 19 NC, 20 NC, 21 NC, 22 ~{2RESE}T, 23 1OUT, 24 1OUT, 25 1FB/NC, 26 NC, 27 NC, 28 ~{1RESET}

## TXS0102
designator U?
footprint TXS0102(SOP8) (SSOP, 8-Leads, Body 2.1x2.4mm (max), Pitch 0.50mm, IPC Medium Density)
pins: 1 B2, 2 GND, 3 VCCA, 4 A2, 5 A1, 6 OE, 7 VCCB, 8 B1

## TXS0108E
designator U?
footprint TXS0108E(SOP20) (SOP, 20-Leads, Body 6.6x4.5mm (max), Pitch 0.65mm, IPC Medium Density)
pins: 1 A1, 2 VCCA, 3 A2, 4 A3, 5 A4, 6 A5, 7 A6, 8 A7, 9 A8, 10 OE, 11 GND, 12 B8, 13 B7, 14 B6, 15 B5, 16 B4, 17 B3, 18 B2, 19 VCCB, 20 B1

## USART-CON
designator CON?
footprint Model Name (Footprint not found)
footprint USART-CON
pins: 1, 2, 3, 4, 5, 6, 7, 8, 9, 10 MH1, 11 MH2

## USB-CON
designator CON?
footprint USB-CON (MICROUSB-B-H4)
pins: 1 VBUS, 2 D-, 3 D+, 4 ID, 5 GND, 6 GND, 7 GND, 8 GND, 9 GND, 10 GND

## w5300 BLOCK
designator w?
footprint W5300 BLOCK
pins: 1 D15, 2 GND, 3 D14, 4 VCC, 5 D13, 6 ~{INT}, 7 D12, 8 ~{CS}, 9 D11, 10 ~{RD}, 11 D10, 12 ~{WR}, 13 D9, 14 A9, 15 D8, 16 A8, 17 D7, 18 A7, 19 D6, 20 A6, 21 D5, 22 A5, 23 D4, 24 A4, 25 D3, 26 A3, 27 D2, 28 A2, 29 D1, 30 A1, 31 D0, 32 A0, 33 NC, 34 NC, 35 NC, 36 NC, 37 NC, 38 NC, 39 NC, 40 NC, 41 NC, 42 NC, 43 NC, 44 NC, 45 NC, 46 NC, 47 NC, 48 NC, 49 NC, 50 NC, 51 NC, 52 NC, 53 NC, 54 NC, 55 NC, 56 NC, 57 NC, 58 NC, 59 NC, 60 NC, 61 NC, 62 NC, 63 RST, 64 NC

## WizFi630-MINI-PCI-e
designator U?
footprint MINI_PCI_e
pins: 0 GND, 1 GND, 2 3.3V, 3 GND, 4 3.3V, 5 CTS_N, 6 RTS_N, 7 RIN, 8 DTR_N, 9 RXD, 10 TXD, 11 DSR_N, 12 DCD_N, 13 WLAN_LED, 14 NC, 15 VBUS, 16 NC, 17 PADP, 18 UART_RX, 19 PADM, 20 UART_TX, 21 TXOP0, 22 RXIM0, 23 TXOM0, 24 RXIP0, 25 RXIM1, 26 TXOP1, 27 RXIP1, 28 TXOM1, 29 RXIP2, 30 TXOM2, 31 RXIM2, 32 TXOP2, 33 LINK_LED_0, 34 LINK_LED_2, 35 LINK_LED_1, 36 GPIO_0, 37 CPURST_N, 38 EJT_TDO, 39 EJT_TRSTN, 40 EJT_TMS, 41 EJT_TDI, 42 EJT_TCK, 43 NC, 44 NC, 45 NC, 46 NC, 47 I2C_SCLK, 48 I2C_SD, 49 GND, 50 3.3V, 51 GND, 52 3.3V

## XTAL
designator Y?  value 10M
Published: 8-Jun-2000; LatestRevisionDate: 17-Jul-2002; LatestRevisionNote: Re-released for DXP Platform.; PackageReference: R38; Publisher: Altium Limited
footprint XTAL_Y
footprint XTAL
pins: 1 OSC1, 2 OSC2

## XTL
designator X?  value 10M
footprint XTL(7050)
pins: 1 NC, 2 GND, 3 OUT, 4 VCC